# Altium footprint library tp4056.PcbLib: 1 footprints
Each footprint in its own frame and in the unit in brackets; x right, y up, seen from the top. Pads: shape width x height; smd on the part's side, far side on the other; paste and mask are expansions set on the pad; w line width, h text height; cw(c..) or ccw(c..) is an arc to the next point about the centre after c.
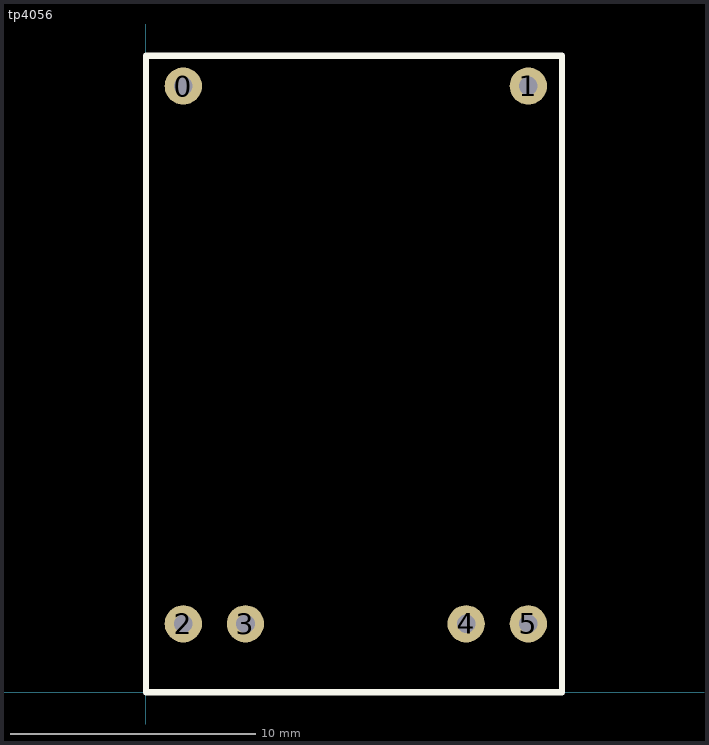
[diagram p0: the footprint, top view; thin cyan lines are the x and y axes]

## tp4056 [mil]
pads (6):
  round 60 hole 30: 0(60,975) 1(615,975) 2(60,110) 3(160,110) 4(515,110) 5(615,110)
Top Overlay:
  lines w10: 0,0 0,1023.62 669.29,1023.62 669.29,0 0,0